# Altium schematic symbol library Limiters.SchLib: 2 symbols
Pins are listed as number, name and electrical type; pins without a type are passive.

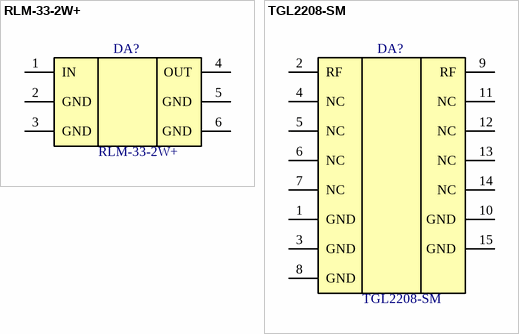
[diagram p0: symbols RLM-33-2W+ to TGL2208-SM]

## RLM-33-2W+
designator DA?
Limiter 50Ω Broadband 0.2 to 3000 MHz; Manufacturer: Mini-Circuits; PartNumber: RLM-33-2W+; ComponentLink1Description: Product Page; ComponentLink1URL: https://www.minicircuits.com/WebStore/dashboard.html?model=RLM-33-2W%2B; ComponentLink2Description: DataSheet; ComponentLink2URL: https://www.minicircuits.com/WebStore/dashboardPdf?model=RLM-33-2W%2B
footprint TT1224 (Mini-Circuits case TT1224)
pins: 1 IN, 2 GND, 3 GND, 4 OUT, 5 GND, 6 GND

## TGL2208-SM
designator DA?
2-20 GHz Dual Stage VPIN Limiter; Manufacturer: Qorvo; PartNumber: TGL2208-SM; ComponentLink1Description: Product Page; ComponentLink1URL: https://www.qorvo.com/products/p/TGL2208-SM; ComponentLink2Description: DataSheet; ComponentLink2URL: https://www.qorvo.com/products/d/da004982
footprint TGL2208-SM (Qorvo TGL2208-SM)
pins: 1 GND, 2 RF, 3 GND, 4 NC, 5 NC, 6 NC, 7 NC, 8 GND, 9 RF, 10 GND, 11 NC, 12 NC, 13 NC, 14 NC, 15 GND